# Altium integrated library Altium_SMD_Resister.IntLib: 490 symbols (part 5 of 8)
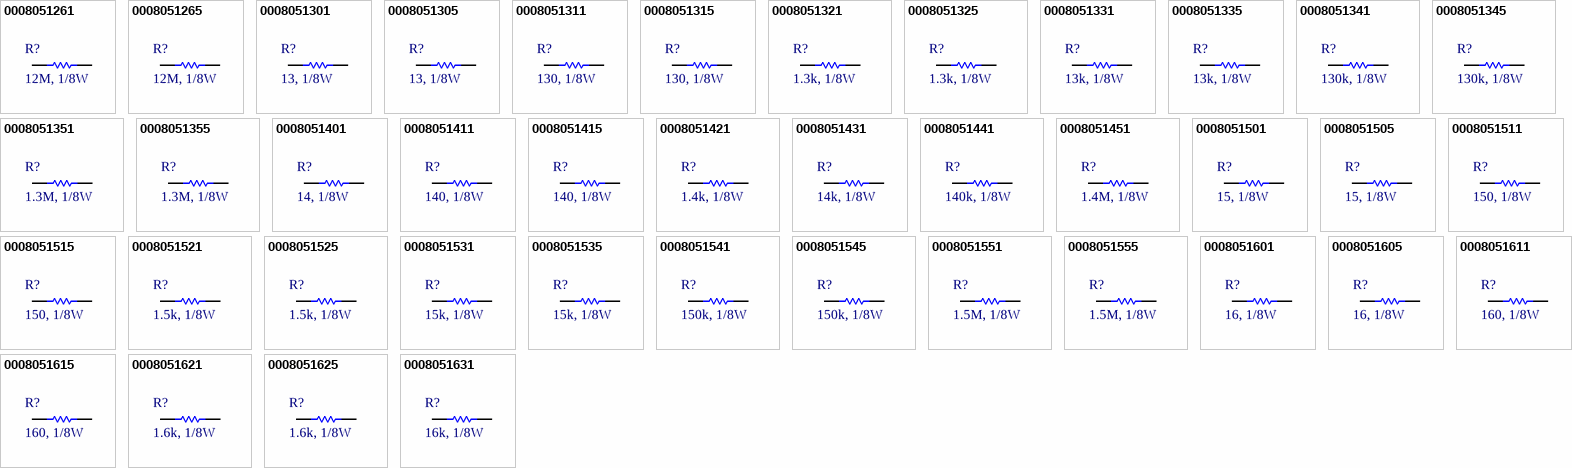
[diagram p16: symbols 0008051261 to 0008051631]

## 0008051305
designator R?, comment 13, 1/8W
RES, 13 Ohm, size 0805, 5%; Manufacture  Name: Vishay Dale; Manufacture  SN: CRCW080513R0JNEA; Resistance tolerance: +/-5%; Resistance: 13; Supply 1 Name: DigiKey; Supply 1 SN: 541-13.0CTR-ND; Supply 2 Name: Mouser; Supply 2 SN: 71-CRCW080513R0JNEA; Supply 3 Name: ThegioiIC; Size: 0805; Mounting Technology: SMT; Rated Power: 1/8 W; Datasheet: https://www.vishay.com/docs/20035/dcrcwe3.pdf; ComponentLink1Description: Datasheet link; ComponentLink1URL: *; Supply 1 URL: https://www.digikey.com/en/products/detail/vishay-dale/CRCW080513R0JNEA/1175153; Supply 2 URL: https://www.mouser.vn/ProductDetail/Vishay-Dale/CRCW080513R0JNEA?qs=0y7Riw94L4g6KLaYV7LaYA%3D%3D; Supply 3 SN: *; Supply 3 URL: https://www.thegioiic.com/dien-tro-13-ohm-0805-5-
footprint RESISTOR_0805 (Chip Resistor, 2-Leads, Body 2,00x1,20mm, IPC Medium Density)
pins: 1, 2

## 0008051311
designator R?, comment 130, 1/8W
RES, 130 Ohm, size 0805, 1%; Manufacture  Name: Vishay Dale; Manufacture  SN: CRCW0805130RFKEA; Resistance tolerance: +/-1%; Resistance: 130; Supply 1 Name: DigiKey; Supply 1 SN: 541-130CTR-ND; Supply 2 Name: Mouser; Supply 2 SN: 71-CRCW0805-130; Size: 0805; Mounting Technology: SMT; Rated Power: 1/8 W; Datasheet: https://www.vishay.com/docs/20035/dcrcwe3.pdf; ComponentLink1Description: Datasheet link; ComponentLink1URL: *; Supply 1 URL: https://www.digikey.com/en/products/detail/vishay-dale/CRCW0805130RFKEA/1175535; Supply 2 URL: https://www.mouser.vn/ProductDetail/Vishay-Dale/CRCW0805130RFKTA?qs=giVM%252B3aTMKxKqHz68BaXog%3D%3D; Supply 3 Name: *; Supply 3 SN: *; Supply 3 URL: *
footprint RESISTOR_0805 (Chip Resistor, 2-Leads, Body 2,00x1,20mm, IPC Medium Density)
pins: 1, 2

## 0008051315
designator R?, comment 130, 1/8W
RES, 130 Ohm, size 0805, 5%; Manufacture  Name: Vishay Dale; Manufacture  SN: CRCW0805130RFKEA; Resistance tolerance: +/-5%; Resistance: 130; Supply 1 Name: DigiKey; Supply 1 SN: 541-130ATR-ND; Supply 2 Name: Mouser; Supply 2 SN: 71-CRCW0805130RJNEA; Supply 3 Name: ThegioiIC; Size: 0805; Mounting Technology: SMT; Rated Power: 1/8 W; Datasheet: https://www.vishay.com/docs/20035/dcrcwe3.pdf; ComponentLink1Description: Datasheet link; ComponentLink1URL: *; Supply 1 URL: https://www.digikey.com/en/products/detail/vishay-dale/CRCW0805130RJNEA/1175177; Supply 2 URL: https://www.mouser.vn/ProductDetail/Vishay-Dale/CRCW0805130RJNEA?qs=0y7Riw94L4hSzyuZjO1BEg%3D%3D; Supply 3 SN: *; Supply 3 URL: https://www.thegioiic.com/dien-tro-130-ohm-0805-5
footprint RESISTOR_0805 (Chip Resistor, 2-Leads, Body 2,00x1,20mm, IPC Medium Density)
pins: 1, 2

## 0008051321
designator R?, comment 1.3k, 1/8W
RES, 1.3k Ohm, size 0805, 1%; Manufacture  Name: Vishay Dale; Manufacture  SN: CRCW08051K30FKEA; Resistance tolerance: +/-1%; Supply 1 Name: DigiKey; Supply 1 SN: 541-1.30KCTR-ND; Supply 2 Name: Mouser; Supply 2 SN: 71-CRCW0805-1.3K-E3; Size: 0805; Mounting Technology: SMT; Rated Power: 1/8 W; Datasheet: https://www.vishay.com/docs/20035/dcrcwe3.pdf; Resistance: 1.3k; ComponentLink1Description: Datasheet link; ComponentLink1URL: *; Supply 1 URL: https://www.digikey.com/en/products/detail/vishay-dale/CRCW08051K30FKEA/1175649; Supply 2 URL: https://www.mouser.vn/ProductDetail/Vishay-Dale/CRCW08051K30FKEA?qs=DZvKvnD5UYWy1USUvWuhZQ%3D%3D; Supply 3 Name: *; Supply 3 SN: *; Supply 3 URL: *
footprint RESISTOR_0805 (Chip Resistor, 2-Leads, Body 2,00x1,20mm, IPC Medium Density)
pins: 1, 2

## 0008051325
designator R?, comment 1.3k, 1/8W
RES, 1.3k Ohm, size 0805, 5%; Manufacture  Name: Vishay Dale; Manufacture  SN: CRCW08051K30JNEA; Resistance tolerance: +/-5%; Supply 1 Name: DigiKey; Supply 1 SN: 541-1.3KATR-ND; Supply 2 Name: Mouser; Supply 2 SN: 71-CRCW08051K30JNEA; Supply 3 Name: ThegioiIC; Size: 0805; Mounting Technology: SMT; Rated Power: 1/8 W; Datasheet: https://www.vishay.com/docs/20035/dcrcwe3.pdf; Resistance: 1.3k; ComponentLink1Description: Datasheet link; ComponentLink1URL: *; Supply 1 URL: https://www.digikey.com/en/products/detail/vishay-dale/CRCW08051K30JNEA/1175201; Supply 2 URL: https://www.mouser.vn/ProductDetail/Vishay-Dale/CRCW08051K30JNEA?qs=DZvKvnD5UYXM63M39f9SOw%3D%3D; Supply 3 SN: *; Supply 3 URL: https://www.thegioiic.com/dien-tro-1-3-kohm-0805-5
footprint RESISTOR_0805 (Chip Resistor, 2-Leads, Body 2,00x1,20mm, IPC Medium Density)
pins: 1, 2

## 0008051331
designator R?, comment 13k, 1/8W
RES, 13k Ohm, size 0805, 1%; Manufacture  Name: Vishay Dale; Manufacture  SN: CRCW080513K0FKEA; Resistance tolerance: +/-1%; Supply 1 Name: DigiKey; Supply 1 SN: 541-13.0KCTR-ND; Supply 2 Name: Mouser; Supply 2 SN: 71-CRCW080513K0FKEAC; Supply 3 Name: ThegioiIC; Size: 0805; Mounting Technology: SMT; Rated Power: 1/8 W; Datasheet: https://www.vishay.com/docs/20035/dcrcwe3.pdf; Resistance: 13k; ComponentLink1Description: Datasheet link; ComponentLink1URL: *; Supply 1 URL: https://www.digikey.com/en/products/detail/vishay-dale/CRCW080513K0FKEA/1175763; Supply 2 URL: https://www.mouser.vn/ProductDetail/Vishay-Dale/CRCW080513K0FKEAC?qs=E3Y5ESvWgWPE3tvm%252BBlG8w%3D%3D; Supply 3 SN: *; Supply 3 URL: https://www.mouser.vn/ProductDetail/Vishay-Dale/CRCW08051K30FKEA?qs=DZvKvnD5UYWy1USUvWuhZQ%3D%3D
footprint RESISTOR_0805 (Chip Resistor, 2-Leads, Body 2,00x1,20mm, IPC Medium Density)
pins: 1, 2

## 0008051335
designator R?, comment 13k, 1/8W
RES, 13k Ohm, size 0805, 5%; Manufacture  Name: Vishay Dale; Manufacture  SN: CRCW080513K0JNEA; Resistance tolerance: +/-5%; Supply 1 Name: DigiKey; Supply 1 SN: 541-13KATR-ND; Supply 2 Name: Mouser; Supply 2 SN: 71-CRCW080513K0JNEA; Supply 3 Name: ThegioiIC; Size: 0805; Mounting Technology: SMT; Rated Power: 1/8 W; Datasheet: https://www.vishay.com/docs/20035/dcrcwe3.pdf; Resistance: 13k; ComponentLink1Description: Datasheet link; ComponentLink1URL: *; Supply 1 URL: https://www.digikey.com/en/products/detail/vishay-dale/CRCW080513K0JNEA/1175225; Supply 2 URL: https://www.mouser.vn/ProductDetail/Vishay-Dale/CRCW080513K0JNEA?qs=0y7Riw94L4jwZQ%2FJsMqPzw%3D%3D; Supply 3 SN: *; Supply 3 URL: https://www.thegioiic.com/dien-tro-13-kohm-0805-5
footprint RESISTOR_0805 (Chip Resistor, 2-Leads, Body 2,00x1,20mm, IPC Medium Density)
pins: 1, 2

## 0008051341
designator R?, comment 130k, 1/8W
RES, 130k Ohm, size 0805, 1%; Manufacture  Name: Vishay Dale; Manufacture  SN: CRCW0805130KFKEAC; Resistance tolerance: +/-1%; Supply 1 Name: DigiKey; Supply 1 SN: 541-CRCW0805130KFKEACTR-ND; Supply 2 Name: Mouser; Supply 2 SN: 71-CRCW0805-130K-E3; Supply 3 Name: ThegioiIC; Size: 0805; Mounting Technology: SMT; Rated Power: 1/8 W; Datasheet: https://www.vishay.com/docs/28773/crcwce3.pdf; Resistance: 130k; ComponentLink1Description: Datasheet link; ComponentLink1URL: *; Supply 1 URL: https://www.digikey.com/en/products/detail/vishay-dale/CRCW0805130KFKEAC/7922604; Supply 2 URL: https://www.mouser.vn/ProductDetail/Vishay-Dale/CRCW0805130KFKEA?qs=0y7Riw94L4iHKWUxGOctIA%3D%3D; Supply 3 SN: *; Supply 3 URL: https://www.thegioiic.com/dien-tro-133-kohm-0805-1-
footprint RESISTOR_0805 (Chip Resistor, 2-Leads, Body 2,00x1,20mm, IPC Medium Density)
pins: 1, 2

## 0008051345
designator R?, comment 130k, 1/8W
RES, 130k Ohm, size 0805, 5%; Manufacture  Name: Vishay Dale; Manufacture  SN: CRCW0805130KJNEA; Resistance tolerance: +/-5%; Supply 1 Name: DigiKey; Supply 1 SN: 541-130KATR-ND; Supply 2 Name: Mouser; Supply 2 SN: 71-CRCW0805130KJNEA; Supply 3 Name: ThegioiIC; Size: 0805; Mounting Technology: SMT; Rated Power: 1/8 W; Datasheet: https://www.vishay.com/docs/20035/dcrcwe3.pdf; Resistance: 130k; ComponentLink1Description: Datasheet link; ComponentLink1URL: *; Supply 1 URL: https://www.digikey.com/en/products/detail/vishay-dale/CRCW0805130KJNEA/1175249; Supply 2 URL: https://www.mouser.vn/ProductDetail/Vishay-Dale/CRCW0805130KJNEA?qs=0y7Riw94L4hrk%2FEo6puJGw%3D%3D; Supply 3 SN: *; Supply 3 URL: https://www.thegioiic.com/dien-tro-130-kohm-0805-5
footprint RESISTOR_0805 (Chip Resistor, 2-Leads, Body 2,00x1,20mm, IPC Medium Density)
pins: 1, 2

## 0008051351
designator R?, comment 1.3M, 1/8W
RES, 1.3M Ohm, size 0805, 1%; Manufacture  Name: Vishay Dale; Manufacture  SN: CRCW08051M30FKEA; Resistance tolerance: +/-1%; Supply 1 Name: DigiKey; Supply 1 SN: 541-1.30MCTR-ND; Supply 2 Name: Mouser; Supply 2 SN: 71-CRCW08051M30FKEA; Size: 0805; Mounting Technology: SMT; Rated Power: 1/8 W; Datasheet: https://www.vishay.com/docs/20035/dcrcwe3.pdf; Resistance: 1.3M; ComponentLink1Description: Datasheet link; ComponentLink1URL: *; Supply 1 URL: https://www.digikey.com/en/products/detail/vishay-dale/CRCW08051M30FKEA/1176028; Supply 2 URL: https://www.mouser.vn/ProductDetail/Vishay-Dale/CRCW08051M30FKEA?qs=1CkV0QOCgMqfDDw%2F4HOy0g%3D%3D; Supply 3 Name: *; Supply 3 SN: *; Supply 3 URL: *
footprint RESISTOR_0805 (Chip Resistor, 2-Leads, Body 2,00x1,20mm, IPC Medium Density)
pins: 1, 2

## 0008051355
designator R?, comment 1.3M, 1/8W
RES, 1.3M Ohm, size 0805, 5%; Manufacture  Name: Vishay Dale; Manufacture  SN: CRCW08051M30JNEAC; Resistance tolerance: +/-5%; Supply 1 Name: DigiKey; Supply 1 SN: CRCW08051M30JNEAC-ND; Supply 2 Name: Mouser; Supply 2 SN: 71-CRCW08051M30JNEA; Supply 3 Name: ThegioiIC; Size: 0805; Mounting Technology: SMT; Rated Power: 1/8 W; Datasheet: https://www.vishay.com/docs/28773/crcwce3.pdf; Resistance: 1.3M; ComponentLink1Description: Datasheet link; ComponentLink1URL: *; Supply 1 URL: https://www.digikey.com/en/products/detail/vishay-dale/CRCW08051M30JNEAC/7923851; Supply 2 URL: https://www.mouser.vn/ProductDetail/Vishay-Dale/CRCW08051M30JNEA?qs=1CkV0QOCgMqStvDAyUDctQ%3D%3D; Supply 3 SN: *; Supply 3 URL: https://www.thegioiic.com/dien-tro-1-3-mohm-0805-5
footprint RESISTOR_0805 (Chip Resistor, 2-Leads, Body 2,00x1,20mm, IPC Medium Density)
pins: 1, 2

## 0008051401
designator R?, comment 14, 1/8W
RES, 14 Ohm, size 0805, 1%; Manufacture  Name: Vishay Dale; Manufacture  SN: CRCW080514R0FKEA; Resistance tolerance: +/-1%; Resistance: 14; Supply 1 Name: DigiKey; Supply 1 SN: 541-14.0CTR-ND; Supply 2 Name: Mouser; Supply 2 SN: 71-CRCW080514R0FKEA; Size: 0805; Mounting Technology: SMT; Rated Power: 1/8 W; Datasheet: https://www.vishay.com/docs/20035/dcrcwe3.pdf; ComponentLink1Description: Datasheet link; ComponentLink1URL: *; Supply 1 URL: https://www.digikey.com/en/products/detail/vishay-dale/CRCW080514R0FKEA/1175424; Supply 2 URL: https://www.mouser.vn/ProductDetail/Vishay-Dale/CRCW080514R0FKEA?qs=bMjB6bAaLENYJ14k%252BREMxw%3D%3D; Supply 3 Name: *; Supply 3 SN: *; Supply 3 URL: *
footprint RESISTOR_0805 (Chip Resistor, 2-Leads, Body 2,00x1,20mm, IPC Medium Density)
pins: 1, 2

## 0008051411
designator R?, comment 140, 1/8W
RES, 140 Ohm, size 0805, 1%; Manufacture  Name: Vishay Dale; Manufacture  SN: CRCW0805140RFKEA; Resistance tolerance: +/-1%; Resistance: 140; Supply 1 Name: DigiKey; Supply 1 SN: 541-140CTR-ND; Supply 2 Name: Mouser; Supply 2 SN: 71-CRCW0805-140-E3; Size: 0805; Mounting Technology: SMT; Rated Power: 1/8 W; Datasheet: https://www.vishay.com/docs/20035/dcrcwe3.pdf; ComponentLink1Description: Datasheet link; ComponentLink1URL: *; Supply 1 URL: https://www.digikey.com/en/products/detail/vishay-dale/CRCW0805140RFKEA/1175538; Supply 2 URL: https://www.mouser.vn/ProductDetail/Vishay-Dale/CRCW0805140RFKEA?qs=0y7Riw94L4jPO4%252BnYwmRgg%3D%3D; Supply 3 Name: *; Supply 3 SN: *; Supply 3 URL: *
footprint RESISTOR_0805 (Chip Resistor, 2-Leads, Body 2,00x1,20mm, IPC Medium Density)
pins: 1, 2

## 0008051415
designator R?, comment 140, 1/8W
RES, 140 Ohm, size 0805, 5%; Manufacture  Name: Vishay Dale; Manufacture  SN: CRCW0805140RJNTA; Resistance tolerance: +/-5%; Resistance: 140; Supply 1 Name: DigiKey; Supply 1 SN: CRCW0805140RJNTA-ND; Size: 0805; Mounting Technology: SMT; Rated Power: 1/8 W; Datasheet: https://www.vishay.com/docs/20008/dcrcw.pdf; ComponentLink1Description: Datasheet link; ComponentLink1URL: *; Supply 1 URL: https://www.digikey.com/en/products/detail/vishay-dale/CRCW0805140RJNTA/5073823?s=N4IgjCBcoExaBjKAzAhgGwM4FMA0IB7KAbXAAYAOAdgE4QBdfABwBcoQBlFgJwEsA7AOYgAvvgDM8EEkhoseQiRAwArGUmMQrdlz5DR%2BMDBoRo0lBhz4ikUuJriYFBszaROPAcLHLKKqTJyVoq24AAsZAAEAPIAFgC2mC5abiAAqvy8LNHIALLYqJgArtzYBiAAtKaIFvLWSiphEPQirUA; Supply 2 Name: *; Supply 2 SN: *; Supply 2 URL: *; Supply 3 Name: *; Supply 3 SN: *; Supply 3 URL: *
footprint RESISTOR_0805 (Chip Resistor, 2-Leads, Body 2,00x1,20mm, IPC Medium Density)
pins: 1, 2

## 0008051421
designator R?, comment 1.4k, 1/8W
RES, 1.4k Ohm, size 0805, 1%; Manufacture  Name: Vishay Dale; Manufacture  SN: CRCW08051K40FKEA; Resistance tolerance: +/-1%; Supply 1 Name: DigiKey; Supply 1 SN: 541-1.40KCTR-ND; Supply 2 Name: Mouser; Supply 2 SN: 71-CRCW08051K40FKEAC; Size: 0805; Mounting Technology: SMT; Rated Power: 1/8 W; Datasheet: https://www.vishay.com/docs/20035/dcrcwe3.pdf; Resistance: 1.4k; ComponentLink1Description: Datasheet link; ComponentLink1URL: *; Supply 1 URL: https://www.digikey.com/en/products/detail/vishay-dale/CRCW08051K40FKEA/1175652; Supply 2 URL: https://www.mouser.vn/ProductDetail/Vishay-Dale/CRCW08051K40FKEAC?qs=E3Y5ESvWgWMroF%2FACx5xCA%3D%3D; Supply 3 Name: *; Supply 3 SN: *; Supply 3 URL: *
footprint RESISTOR_0805 (Chip Resistor, 2-Leads, Body 2,00x1,20mm, IPC Medium Density)
pins: 1, 2

## 0008051431
designator R?, comment 14k, 1/8W
RES, 14k Ohm, size 0805, 1%; Manufacture  Name: Vishay Dale; Manufacture  SN: CRCW080514K0FKEA; Resistance tolerance: +/-1%; Supply 1 Name: DigiKey; Supply 1 SN: 541-14.0KCTR-ND; Supply 2 Name: Mouser; Supply 2 SN: 71-CRCW0805-14K; Size: 0805; Mounting Technology: SMT; Rated Power: 1/8 W; Datasheet: https://www.vishay.com/docs/20035/dcrcwe3.pdf; Resistance: 14k; ComponentLink1Description: Datasheet link; ComponentLink1URL: *; Supply 1 URL: https://www.digikey.com/en/products/detail/vishay-dale/CRCW080514K0FKEA/1175766; Supply 2 URL: https://www.mouser.vn/ProductDetail/Vishay-Dale/CRCW080514K0FKTA?qs=y%252BxuShyeZ0O8roe3MhXm6Q%3D%3D; Supply 3 Name: *; Supply 3 SN: *; Supply 3 URL: *
footprint RESISTOR_0805 (Chip Resistor, 2-Leads, Body 2,00x1,20mm, IPC Medium Density)
pins: 1, 2

## 0008051441
designator R?, comment 140k, 1/8W
RES, 140k Ohm, size 0805, 1%; Manufacture  Name: Vishay Dale; Manufacture  SN: CRCW0805140KFKEA; Resistance tolerance: +/-1%; Supply 1 Name: DigiKey; Supply 1 SN: 541-140KCTR-ND; Supply 2 Name: Mouser; Supply 2 SN: 71-CRCW0805-140K-E3; Size: 0805; Mounting Technology: SMT; Rated Power: 1/8 W; Datasheet: https://www.vishay.com/docs/20035/dcrcwe3.pdf; Resistance: 140k; ComponentLink1Description: Datasheet link; ComponentLink1URL: *; Supply 1 URL: https://www.digikey.com/en/products/detail/vishay-dale/CRCW0805140KFKEA/1175880; Supply 2 URL: https://www.mouser.vn/ProductDetail/Vishay-Dale/CRCW0805140KFKEA?qs=0y7Riw94L4gtbV%2FoXTvwTw%3D%3D; Supply 3 Name: *; Supply 3 SN: *; Supply 3 URL: *
footprint RESISTOR_0805 (Chip Resistor, 2-Leads, Body 2,00x1,20mm, IPC Medium Density)
pins: 1, 2

## 0008051451
designator R?, comment 1.4M, 1/8W
RES, 1.4M Ohm, size 0805, 1%; Manufacture  Name: Vishay Dale; Manufacture  SN: CRCW08051M40FKEA; Resistance tolerance: +/-1%; Supply 1 Name: DigiKey; Supply 1 SN: 541-1.40MCTR-ND; Supply 2 Name: Mouser; Supply 2 SN: 71-CRCW08051M40FKEA; Size: 0805; Mounting Technology: SMT; Rated Power: 1/8 W; Datasheet: https://www.vishay.com/docs/20035/dcrcwe3.pdf; Resistance: 1.4M; ComponentLink1Description: Datasheet link; ComponentLink1URL: *; Supply 1 URL: https://www.digikey.com/en/products/detail/vishay-dale/CRCW08051M40FKEA/1176031; Supply 2 URL: https://www.mouser.vn/ProductDetail/Vishay-Dale/CRCW08051M40FKEA?qs=1CkV0QOCgMrnDZ6HKgVapA%3D%3D; Supply 3 Name: *; Supply 3 SN: *; Supply 3 URL: *
footprint RESISTOR_0805 (Chip Resistor, 2-Leads, Body 2,00x1,20mm, IPC Medium Density)
pins: 1, 2

## 0008051501
designator R?, comment 15, 1/8W
RES, 15 Ohm, size 0805, 1%; Manufacture  Name: Vishay Dale; Manufacture  SN: CRCW080515R0FKEB; Resistance tolerance: +/-1%; Resistance: 15; Supply 1 Name: DigiKey; Supply 1 SN: 541-CRCW080515R0FKEBTR-ND; Supply 2 Name: Mouser; Supply 2 SN: 71-CRCW080515R0FKEAC; Supply 3 Name: ThegioiIC; Size: 0805; Mounting Technology: SMT; Rated Power: 1/8 W; Datasheet: https://www.vishay.com/docs/20035/dcrcwe3.pdf; ComponentLink1Description: Datasheet link; ComponentLink1URL: *; Supply 1 URL: https://www.digikey.com/en/products/detail/vishay-dale/CRCW080515R0FKEB/5073898; Supply 2 URL: https://www.mouser.vn/ProductDetail/Vishay-Dale/CRCW080515R0FKEAC?qs=E3Y5ESvWgWM44NF3DwTdDQ%3D%3D; Supply 3 SN: *; Supply 3 URL: https://www.mouser.vn/ProductDetail/Vishay-Dale/CRCW080514R0FKEA?qs=bMjB6bAaLENYJ14k%252BREMxw%3D%3D
footprint RESISTOR_0805 (Chip Resistor, 2-Leads, Body 2,00x1,20mm, IPC Medium Density)
pins: 1, 2

## 0008051505
designator R?, comment 15, 1/8W
RES, 15 Ohm, size 0805, 5%; Manufacture  Name: Vishay Dale; Manufacture  SN: CRCW080515R0JNEA; Resistance tolerance: +/-5%; Resistance: 15; Supply 1 Name: DigiKey; Supply 1 SN: 541-15ATR-ND; Supply 2 Name: Mouser; Supply 2 SN: 71-CRCW0805J-15; Supply 3 Name: ThegioiIC; Size: 0805; Mounting Technology: SMT; Rated Power: 1/8 W; Datasheet: https://www.vishay.com/docs/20035/dcrcwe3.pdf; ComponentLink1Description: Datasheet link; ComponentLink1URL: *; Supply 1 URL: https://www.digikey.com/en/products/detail/vishay-dale/CRCW080515R0JNEA/1175154; Supply 2 URL: https://www.mouser.vn/ProductDetail/Vishay-Dale/CRCW080515R0JNTA?qs=7lMtFQ21GD%2Fy1G9yTvj1Dg%3D%3D; Supply 3 SN: *; Supply 3 URL: https://www.thegioiic.com/dien-tro-15-ohm-0805-5-
footprint RESISTOR_0805 (Chip Resistor, 2-Leads, Body 2,00x1,20mm, IPC Medium Density)
pins: 1, 2

## 0008051511
designator R?, comment 150, 1/8W
RES, 150 Ohm, size 0805, 1%; Manufacture  Name: Vishay Dale; Manufacture  SN: CRCW0805150RFKEAC; Resistance tolerance: +/-1%; Resistance: 150; Supply 1 Name: DigiKey; Supply 1 SN: 541-CRCW0805150RFKEACTR-ND; Supply 2 Name: Mouser; Supply 2 SN: 71-CRCW0805150RFKEB; Size: 0805; Mounting Technology: SMT; Rated Power: 1/8 W; Datasheet: https://www.vishay.com/docs/28773/crcwce3.pdf; ComponentLink1Description: Datasheet link; ComponentLink1URL: *; Supply 1 URL: https://www.digikey.com/en/products/detail/vishay-dale/CRCW0805150RFKEAC/7922303; Supply 2 URL: https://www.mouser.vn/ProductDetail/Vishay-Dale/CRCW0805150RFKEB?qs=bMjB6bAaLEOZD7oncshwRw%3D%3D; Supply 3 Name: *; Supply 3 SN: *; Supply 3 URL: *
footprint RESISTOR_0805 (Chip Resistor, 2-Leads, Body 2,00x1,20mm, IPC Medium Density)
pins: 1, 2

## 0008051515
designator R?, comment 150, 1/8W
RES, 150 Ohm, size 0805, 5%; Manufacture  Name: Vishay Dale; Manufacture  SN: CRCW0805150RFKEAC; Resistance tolerance: +/-5%; Resistance: 150; Supply 1 Name: DigiKey; Supply 1 SN: 541-150ATR-ND; Supply 2 Name: Mouser; Supply 3 Name: ThegioiIC; Size: 0805; Mounting Technology: SMT; Rated Power: 1/8 W; Datasheet: https://www.vishay.com/docs/20035/dcrcwe3.pdf; ComponentLink1Description: Datasheet link; ComponentLink1URL: *; Supply 1 URL: https://www.digikey.com/en/products/detail/vishay-dale/CRCW0805150RJNEA/1175178; Supply 2 SN: 541-150ATR-ND; Supply 2 URL: https://www.digikey.com/en/products/detail/vishay-dale/CRCW0805150RJNEA/1175178; Supply 3 SN: *; Supply 3 URL: https://www.thegioiic.com/dien-tro-150-ohm-0805-5
footprint RESISTOR_0805 (Chip Resistor, 2-Leads, Body 2,00x1,20mm, IPC Medium Density)
pins: 1, 2

## 0008051521
designator R?, comment 1.5k, 1/8W
RES, 1.5k Ohm, size 0805, 1%; Manufacture  Name: Vishay Dale; Manufacture  SN: CRCW08051K50FKEAC; Resistance tolerance: +/-1%; Supply 1 Name: DigiKey; Supply 1 SN: 541-4161-2-ND; Supply 2 Name: Mouser; Supply 2 SN: 71-CRCW0805-1.5K-E3; Supply 3 Name: ThegioiIC; Size: 0805; Mounting Technology: SMT; Rated Power: 1/8 W; Datasheet: https://www.vishay.com/docs/28773/crcwce3.pdf; Resistance: 1.5k; ComponentLink1Description: Datasheet link; ComponentLink1URL: *; Supply 1 URL: https://www.digikey.com/en/products/detail/vishay-dale/CRCW08051K50FKEAC/7928583; Supply 2 URL: https://www.mouser.vn/ProductDetail/Vishay-Dale/CRCW08051K50FKEA?qs=DZvKvnD5UYVo4ieimONp3Q%3D%3D; Supply 3 SN: *; Supply 3 URL: CRCW08051K50FKEAC
footprint RESISTOR_0805 (Chip Resistor, 2-Leads, Body 2,00x1,20mm, IPC Medium Density)
pins: 1, 2

## 0008051525
designator R?, comment 1.5k, 1/8W
RES, 1.5k Ohm, size 0805, 5%; Manufacture  Name: Vishay Dale; Manufacture  SN: CRCW08051K50JNEAC; Resistance tolerance: +/-5%; Supply 1 Name: DigiKey; Supply 1 SN: 541-CRCW08051K50JNEACTR-ND; Supply 2 Name: Mouser; Supply 2 SN: 71-CRCW0805J-1.5K-E3; Supply 3 Name: ThegioiIC; Size: 0805; Mounting Technology: SMT; Rated Power: 1/8 W; Datasheet: https://www.vishay.com/docs/28773/crcwce3.pdf; Resistance: 1.5k; ComponentLink1Description: Datasheet link; ComponentLink1URL: *; Supply 1 URL: https://www.digikey.com/en/products/detail/vishay-dale/CRCW08051K50JNEAC/7923721; Supply 2 URL: https://www.mouser.vn/ProductDetail/Vishay-Dale/CRCW08051K50JNEA?qs=DZvKvnD5UYVu0sAToX1nWg%3D%3D; Supply 3 SN: *; Supply 3 URL: https://www.thegioiic.com/dien-tro-1-5-kohm-0805-5
footprint RESISTOR_0805 (Chip Resistor, 2-Leads, Body 2,00x1,20mm, IPC Medium Density)
pins: 1, 2

## 0008051531
designator R?, comment 15k, 1/8W
RES, 15k Ohm, size 0805, 1%; Manufacture  Name: Vishay Dale; Manufacture  SN: CRCW080515K0FKEAC; Resistance tolerance: +/-1%; Supply 1 Name: DigiKey; Supply 1 SN: 541-4136-2-ND; Supply 2 Name: Mouser; Supply 2 SN: 71-CRCW0805-15K-E3; Supply 3 Name: ThegioiIC; Size: 0805; Mounting Technology: SMT; Rated Power: 1/8 W; Datasheet: https://www.vishay.com/docs/28773/crcwce3.pdf; Resistance: 15k; ComponentLink1Description: Datasheet link; ComponentLink1URL: *; Supply 1 URL: https://www.digikey.com/en/products/detail/vishay-dale/CRCW080515K0FKEAC/7928558; Supply 2 URL: https://www.mouser.vn/ProductDetail/Vishay-Dale/CRCW080515K0FKEA?qs=bMjB6bAaLEM4rXT2DoR3BA%3D%3D; Supply 3 SN: *; Supply 3 URL: 71-CRCW0805-15K-E3
footprint RESISTOR_0805 (Chip Resistor, 2-Leads, Body 2,00x1,20mm, IPC Medium Density)
pins: 1, 2

## 0008051535
designator R?, comment 15k, 1/8W
RES, 15k Ohm, size 0805, 5%; Manufacture  Name: Vishay Dale; Manufacture  SN: CRCW080515K0JNEA; Resistance tolerance: +/-5%; Supply 1 Name: DigiKey; Supply 1 SN: 541-15KATR-ND; Supply 2 Name: Mouser; Supply 2 SN: 71-CRCW0805J-15K-E3; Supply 3 Name: ThegioiIC; Size: 0805; Mounting Technology: SMT; Rated Power: 1/8 W; Datasheet: https://www.vishay.com/docs/20035/dcrcwe3.pdf; Resistance: 15k; ComponentLink1Description: Datasheet link; ComponentLink1URL: *; Supply 1 URL: https://www.digikey.com/en/products/detail/vishay-dale/CRCW080515K0JNEA/1175226; Supply 2 URL: https://www.mouser.vn/ProductDetail/Vishay-Dale/CRCW080515K0JNEA?qs=bMjB6bAaLENV0lmPLLG8xQ%3D%3D; Supply 3 SN: *; Supply 3 URL: https://www.thegioiic.com/dien-tro-15-kohm-0805-5
footprint RESISTOR_0805 (Chip Resistor, 2-Leads, Body 2,00x1,20mm, IPC Medium Density)
pins: 1, 2

## 0008051541
designator R?, comment 150k, 1/8W
RES, 150k Ohm, size 0805, 1%; Manufacture  Name: Vishay Dale; Manufacture  SN: CRCW0805150KFKEAC; Resistance tolerance: +/-1%; Supply 1 Name: DigiKey; Supply 1 SN: 541-CRCW0805150KFKEACTR-ND; Supply 2 Name: Mouser; Supply 2 SN: 71-RCV0805150KFKEA; Supply 3 Name: ThegioiIC; Size: 0805; Mounting Technology: SMT; Rated Power: 1/8 W; Datasheet: https://www.vishay.com/docs/28773/crcwce3.pdf; Resistance: 150k; ComponentLink1Description: Datasheet link; ComponentLink1URL: *; Supply 1 URL: https://www.digikey.com/en/products/detail/vishay-dale/CRCW0805150KFKEAC/7922326; Supply 2 URL: https://www.mouser.vn/ProductDetail/Vishay-Draloric/RCV0805150KFKEA?qs=%252BZJHVReOaHoD19mGJzXQNg%3D%3D; Supply 3 SN: *; Supply 3 URL: https://www.vishay.com/docs/28773/crcwce3.pdf
footprint RESISTOR_0805 (Chip Resistor, 2-Leads, Body 2,00x1,20mm, IPC Medium Density)
pins: 1, 2

## 0008051545
designator R?, comment 150k, 1/8W
RES, 150k Ohm, size 0805, 5%; Manufacture  Name: Vishay Dale; Manufacture  SN: CRCW0805150KJNEA; Resistance tolerance: +/-5%; Supply 1 Name: DigiKey; Supply 1 SN: 541-150KATR-ND; Supply 2 Name: Mouser; Supply 2 SN: 71-CRCW0805150KJNEA; Supply 3 Name: ThegioiIC; Size: 0805; Mounting Technology: SMT; Rated Power: 1/8 W; Datasheet: https://www.vishay.com/docs/20035/dcrcwe3.pdf; Resistance: 150k; ComponentLink1Description: Datasheet link; ComponentLink1URL: *; Supply 1 URL: https://www.digikey.com/en/products/detail/vishay-dale/CRCW0805150KJNEA/1175250; Supply 2 URL: https://www.mouser.vn/ProductDetail/Vishay-Dale/CRCW0805150KJNEA?qs=bMjB6bAaLEMh7CXrahQqdQ%3D%3D; Supply 3 SN: *; Supply 3 URL: https://www.thegioiic.com/dien-tro-150-kohm-0805-5
footprint RESISTOR_0805 (Chip Resistor, 2-Leads, Body 2,00x1,20mm, IPC Medium Density)
pins: 1, 2

## 0008051551
designator R?, comment 1.5M, 1/8W
RES, 1.5M Ohm, size 0805, 1%; Manufacture  Name: Vishay Dale; Manufacture  SN: CRCW08051M50FKEB; Resistance tolerance: +/-1%; Supply 1 Name: DigiKey; Supply 1 SN: 541-CRCW08051M50FKEBTR-ND; Supply 2 Name: Mouser; Supply 2 SN: 71-CRCW08051M50FKEAC; Size: 0805; Mounting Technology: SMT; Rated Power: 1/8 W; Datasheet: https://www.vishay.com/docs/20035/dcrcwe3.pdf; Resistance: 1.5M; ComponentLink1Description: Datasheet link; ComponentLink1URL: *; Supply 1 URL: https://www.digikey.com/en/products/detail/vishay-dale/CRCW08051M50FKEB/5074207; Supply 2 URL: https://www.mouser.vn/ProductDetail/Vishay-Dale/CRCW08051M50FKEAC?qs=E3Y5ESvWgWPkTbMzua%252BFLg%3D%3D; Supply 3 Name: *; Supply 3 SN: *; Supply 3 URL: *
footprint RESISTOR_0805 (Chip Resistor, 2-Leads, Body 2,00x1,20mm, IPC Medium Density)
pins: 1, 2

## 0008051555
designator R?, comment 1.5M, 1/8W
RES, 1.5M Ohm, size 0805, 5%; Manufacture  Name: Vishay Dale; Manufacture  SN: CRCW08051M50JNEA; Resistance tolerance: +/-5%; Supply 1 Name: DigiKey; Supply 1 SN: 541-1.5MATR-ND; Supply 2 Name: Mouser; Supply 2 SN: 71-CRCW08051M50JNEA; Supply 3 Name: ThegioiIC; Size: 0805; Mounting Technology: SMT; Rated Power: 1/8 W; Datasheet: https://www.vishay.com/docs/20035/dcrcwe3.pdf; Resistance: 1.5M; ComponentLink1Description: Datasheet link; ComponentLink1URL: *; Supply 1 URL: https://www.digikey.com/en/products/detail/vishay-dale/CRCW08051M50JNEA/1175274; Supply 2 URL: https://www.mouser.vn/ProductDetail/Vishay-Dale/CRCW08051M50JNEA?qs=1CkV0QOCgMooXqsYWJtv9Q%3D%3D; Supply 3 SN: *; Supply 3 URL: https://www.thegioiic.com/dien-tro-1-5-mohm-0805-5
footprint RESISTOR_0805 (Chip Resistor, 2-Leads, Body 2,00x1,20mm, IPC Medium Density)
pins: 1, 2

## 0008051601
designator R?, comment 16, 1/8W
RES, 16 Ohm, size 0805, 1%; Manufacture  Name: Vishay Dale; Manufacture  SN: CRCW080516R0FKEA; Resistance tolerance: +/-1%; Resistance: 16; Supply 1 Name: DigiKey; Supply 1 SN: 541-16.0CTR-ND; Supply 2 Name: Mouser; Supply 2 SN: 71-CRCW080516R0FKEA; Size: 0805; Mounting Technology: SMT; Rated Power: 1/8 W; Datasheet: https://www.vishay.com/docs/20035/dcrcwe3.pdf; ComponentLink1Description: Datasheet link; ComponentLink1URL: *; Supply 1 URL: https://www.digikey.com/en/products/detail/vishay-dale/CRCW080516R0FKEA/1175430; Supply 2 URL: https://www.mouser.vn/ProductDetail/Vishay-Dale/CRCW080516R0FKEA?qs=3ySnGRKSeyR1iWFsu%2FZBpQ%3D%3D; Supply 3 Name: *; Supply 3 SN: *; Supply 3 URL: *
footprint RESISTOR_0805 (Chip Resistor, 2-Leads, Body 2,00x1,20mm, IPC Medium Density)
pins: 1, 2

## 0008051605
designator R?, comment 16, 1/8W
RES, 16 Ohm, size 0805, 5%; Manufacture  Name: Vishay Dale; Manufacture  SN: CRCW080516R0JNEA; Resistance tolerance: +/-5%; Resistance: 16; Supply 1 Name: DigiKey; Supply 1 SN: 541-16ATR-ND; Supply 2 Name: Mouser; Supply 2 SN: 71-CRCW080516R0JNEA; Supply 3 Name: ThegioiIC; Size: 0805; Mounting Technology: SMT; Rated Power: 1/8 W; Datasheet: https://www.vishay.com/docs/20035/dcrcwe3.pdf; ComponentLink1Description: Datasheet link; ComponentLink1URL: *; Supply 1 URL: https://www.digikey.com/en/products/detail/vishay-dale/CRCW080516R0JNEA/1175155; Supply 2 URL: https://www.mouser.vn/ProductDetail/Vishay-Dale/CRCW080516R0JNEA?qs=2mNt4BZ3oPyhLk0EE%252BJFZw%3D%3D; Supply 3 SN: *; Supply 3 URL: https://www.thegioiic.com/dien-tro-16-ohm-0805-5-
footprint RESISTOR_0805 (Chip Resistor, 2-Leads, Body 2,00x1,20mm, IPC Medium Density)
pins: 1, 2

## 0008051611
designator R?, comment 160, 1/8W
RES, 160 Ohm, size 0805, 1%; Manufacture  Name: Vishay Dale; Manufacture  SN: CRCW0805160RFKEA; Resistance tolerance: +/-1%; Resistance: 160; Supply 1 Name: DigiKey; Supply 1 SN: 541-160CTR-ND; Supply 2 Name: Mouser; Supply 2 SN: 71-CRCW0805-160; Size: 0805; Mounting Technology: SMT; Rated Power: 1/8 W; Datasheet: https://www.vishay.com/docs/20035/dcrcwe3.pdf; ComponentLink1Description: Datasheet link; ComponentLink1URL: *; Supply 1 URL: https://www.digikey.com/en/products/detail/vishay-dale/CRCW0805160RFKEA/1175544; Supply 2 URL: https://www.mouser.vn/ProductDetail/Vishay-Dale/CRCW0805160RFKTA?qs=gDaCAY0XVXFAHdJsLcN14A%3D%3D; Supply 3 Name: *; Supply 3 SN: *; Supply 3 URL: *
footprint RESISTOR_0805 (Chip Resistor, 2-Leads, Body 2,00x1,20mm, IPC Medium Density)
pins: 1, 2

## 0008051615
designator R?, comment 160, 1/8W
RES, 160 Ohm, size 0805, 5%; Manufacture  Name: Vishay Dale; Manufacture  SN: CRCW0805160RJNEA; Resistance tolerance: +/-5%; Resistance: 160; Supply 1 Name: DigiKey; Supply 1 SN: 541-160ATR-ND; Supply 2 Name: Mouser; Supply 2 SN: 71-CRCW0805160RJNEA; Supply 3 Name: ThegioiIC; Size: 0805; Mounting Technology: SMT; Rated Power: 1/8 W; Datasheet: https://www.vishay.com/docs/20035/dcrcwe3.pdf; ComponentLink1Description: Datasheet link; ComponentLink1URL: *; Supply 1 URL: https://www.digikey.com/en/products/detail/vishay-dale/CRCW0805160RJNEA/1175179; Supply 2 URL: https://www.mouser.vn/ProductDetail/Vishay-Dale/CRCW0805160RJNEA?qs=bMjB6bAaLEPyPBo8gbRxtw%3D%3D; Supply 3 SN: *; Supply 3 URL: https://www.thegioiic.com/dien-tro-160-ohm-0805-5
footprint RESISTOR_0805 (Chip Resistor, 2-Leads, Body 2,00x1,20mm, IPC Medium Density)
pins: 1, 2

## 0008051621
designator R?, comment 1.6k, 1/8W
RES, 1.6k Ohm, size 0805, 1%; Manufacture  Name: Vishay Dale; Manufacture  SN: CRCW08051K60FKEAC; Resistance tolerance: +/-1%; Supply 1 Name: DigiKey; Supply 1 SN: 541-CRCW08051K60FKEACTR-ND; Supply 2 Name: Mouser; Supply 2 SN: 71-CRCW08051K60FKEA; Size: 0805; Mounting Technology: SMT; Rated Power: 1/8 W; Datasheet: https://www.vishay.com/docs/28773/crcwce3.pdf; Resistance: 1.6k; ComponentLink1Description: Datasheet link; ComponentLink1URL: *; Supply 1 URL: https://www.digikey.com/en/products/detail/vishay-dale/CRCW08051K60FKEAC/7922561; Supply 2 URL: https://www.mouser.vn/ProductDetail/Vishay-Dale/CRCW08051K60FKEA?qs=1CkV0QOCgMpD4fa496FW%2FQ%3D%3D; Supply 3 Name: *; Supply 3 SN: *; Supply 3 URL: *
footprint RESISTOR_0805 (Chip Resistor, 2-Leads, Body 2,00x1,20mm, IPC Medium Density)
pins: 1, 2

## 0008051625
designator R?, comment 1.6k, 1/8W
RES, 1.6k Ohm, size 0805, 5%; Manufacture  Name: Vishay Dale; Manufacture  SN: CRCW08051K60JNEA; Resistance tolerance: +/-5%; Supply 1 Name: DigiKey; Supply 1 SN: 541-1.6KATR-ND; Supply 2 Name: Mouser; Supply 2 SN: 71-CRCW08051K60JNEA; Supply 3 Name: ThegioiIC; Size: 0805; Mounting Technology: SMT; Rated Power: 1/8 W; Datasheet: https://www.vishay.com/docs/20035/dcrcwe3.pdf; Resistance: 1.6k; ComponentLink1Description: Datasheet link; ComponentLink1URL: *; Supply 1 URL: https://www.digikey.com/en/products/detail/vishay-dale/CRCW08051K60JNEA/1175203; Supply 2 URL: https://www.mouser.vn/ProductDetail/Vishay-Dale/CRCW08051K60JNEA?qs=1CkV0QOCgMp9ti69jxGtDQ%3D%3D; Supply 3 SN: *; Supply 3 URL: https://www.thegioiic.com/dien-tro-1-6-kohm-0805-5
footprint RESISTOR_0805 (Chip Resistor, 2-Leads, Body 2,00x1,20mm, IPC Medium Density)
pins: 1, 2

## 0008051631
designator R?, comment 16k, 1/8W
RES, 16k Ohm, size 0805, 1%; Manufacture  Name: Vishay Dale; Manufacture  SN: CRCW080516K0FKEA; Resistance tolerance: +/-1%; Supply 1 Name: DigiKey; Supply 1 SN: 541-16.0KCTR-ND; Supply 2 Name: Mouser; Supply 2 SN: 71-CRCW080516K0FKEA; Size: 0805; Mounting Technology: SMT; Rated Power: 1/8 W; Datasheet: https://www.vishay.com/docs/20035/dcrcwe3.pdf; Resistance: 16k; ComponentLink1Description: Datasheet link; ComponentLink1URL: *; Supply 1 URL: https://www.digikey.com/en/products/detail/vishay-dale/CRCW080516K0FKEA/1175772; Supply 2 URL: https://www.mouser.vn/ProductDetail/Vishay-Dale/CRCW080516K0FKEA?qs=2mNt4BZ3oPz8gFxKsC%252Bkpg%3D%3D; Supply 3 Name: *; Supply 3 SN: *; Supply 3 URL: *
footprint RESISTOR_0805 (Chip Resistor, 2-Leads, Body 2,00x1,20mm, IPC Medium Density)
pins: 1, 2

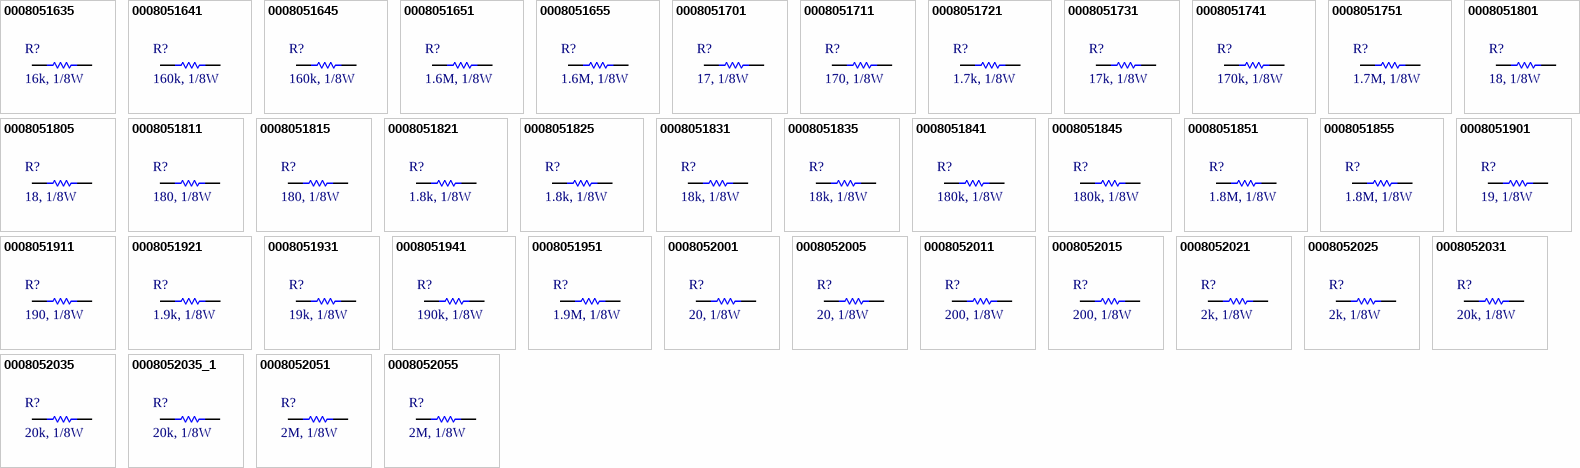
[diagram p8: symbols 0008051635 to 0008052055]

## 0008051635
designator R?, comment 16k, 1/8W
RES, 16k Ohm, size 0805, 5%; Manufacture  Name: Vishay Dale; Manufacture  SN: CRCW080516K0JNEA; Resistance tolerance: +/-5%; Supply 1 Name: DigiKey; Supply 1 SN: 541-16KATR-ND; Supply 2 Name: Mouser; Supply 2 SN: 71-CRCW080516K0JNEA; Supply 3 Name: ThegioiIC; Size: 0805; Mounting Technology: SMT; Rated Power: 1/8 W; Datasheet: https://www.vishay.com/docs/20035/dcrcwe3.pdf; Resistance: 16k; ComponentLink1Description: Datasheet link; ComponentLink1URL: *; Supply 1 URL: https://www.digikey.com/en/products/detail/vishay-dale/CRCW080516K0JNEA/1175227; Supply 2 URL: https://www.mouser.vn/ProductDetail/Vishay-Dale/CRCW080516K0JNEA?qs=2mNt4BZ3oPz0YxKgjgScdw%3D%3D; Supply 3 SN: *; Supply 3 URL: https://www.thegioiic.com/dien-tro-16-kohm-0805-5
footprint RESISTOR_0805 (Chip Resistor, 2-Leads, Body 2,00x1,20mm, IPC Medium Density)
pins: 1, 2

## 0008051641
designator R?, comment 160k, 1/8W
RES, 160k Ohm, size 0805, 1%; Manufacture  Name: Vishay Dale; Manufacture  SN: CRCW0805160KFKEA; Resistance tolerance: +/-1%; Supply 1 Name: DigiKey; Supply 1 SN: 541-160KCTR-ND; Supply 2 Name: Mouser; Supply 2 SN: 71-CRCW0805160KFKEA; Size: 0805; Mounting Technology: SMT; Rated Power: 1/8 W; Datasheet: https://www.vishay.com/docs/20035/dcrcwe3.pdf; Resistance: 160k; ComponentLink1Description: Datasheet link; ComponentLink1URL: *; Supply 1 URL: https://www.digikey.com/en/products/detail/vishay-dale/CRCW0805160KFKEA/1175886; Supply 2 URL: https://www.mouser.vn/ProductDetail/Vishay-Dale/CRCW0805160KFKEA?qs=K41p2XksEyGudUKnUltmEw%3D%3D; Supply 3 Name: *; Supply 3 SN: *; Supply 3 URL: *
footprint RESISTOR_0805 (Chip Resistor, 2-Leads, Body 2,00x1,20mm, IPC Medium Density)
pins: 1, 2

## 0008051645
designator R?, comment 160k, 1/8W
RES, 160k Ohm, size 0805, 5%; Manufacture  Name: Vishay Dale; Manufacture  SN: CRCW0805160RJNEA; Resistance tolerance: +/-5%; Supply 1 Name: DigiKey; Supply 1 SN: 541-160ATR-ND; Supply 2 Name: Mouser; Supply 2 SN: 71-CRCW0805160KJNEA; Supply 3 Name: ThegioiIC; Size: 0805; Mounting Technology: SMT; Rated Power: 1/8 W; Datasheet: https://www.vishay.com/docs/20035/dcrcwe3.pdf; Resistance: 160k; ComponentLink1Description: Datasheet link; ComponentLink1URL: *; Supply 1 URL: https://www.digikey.com/en/products/detail/vishay-dale/CRCW0805160RJNEA/1175179; Supply 2 URL: https://www.mouser.vn/ProductDetail/Vishay-Dale/CRCW0805160KJNEA?qs=bMjB6bAaLENzV8duqa5ZYg%3D%3D; Supply 3 SN: *; Supply 3 URL: https://www.thegioiic.com/dien-tro-160-kohm-0805-5
footprint RESISTOR_0805 (Chip Resistor, 2-Leads, Body 2,00x1,20mm, IPC Medium Density)
pins: 1, 2

## 0008051651
designator R?, comment 1.6M, 1/8W
RES, 1.6M Ohm, size 0805, 1%; Manufacture  Name: Vishay Dale; Manufacture  SN: CRCW08051M60FKEA; Resistance tolerance: +/-1%; Supply 1 Name: DigiKey; Supply 1 SN: 541-1.60MCTR-ND; Supply 2 Name: Mouser; Supply 2 SN: 71-CRCW08051M60FKEA; Size: 0805; Mounting Technology: SMT; Rated Power: 1/8 W; Datasheet: https://www.vishay.com/docs/20035/dcrcwe3.pdf; Resistance: 1.6M; ComponentLink1Description: Datasheet link; ComponentLink1URL: *; Supply 1 URL: https://www.digikey.com/en/products/detail/vishay-dale/CRCW08051M60FKEA/1176037; Supply 2 URL: https://www.mouser.vn/ProductDetail/Vishay-Dale/CRCW08051M60FKEA?qs=uQdQW2oKfUW%2F4zUqScrJaQ%3D%3D; Supply 3 Name: *; Supply 3 SN: *; Supply 3 URL: *
footprint RESISTOR_0805 (Chip Resistor, 2-Leads, Body 2,00x1,20mm, IPC Medium Density)
pins: 1, 2

## 0008051655
designator R?, comment 1.6M, 1/8W
RES, 1.6M Ohm, size 0805, 5%; Manufacture  Name: Vishay Dale; Manufacture  SN: CRCW08051M60JNEA; Resistance tolerance: +/-5%; Supply 1 Name: DigiKey; Supply 1 SN: 541-1.6MATR-ND; Supply 2 Name: Mouser; Supply 2 SN: 71-CRCW08051M60JNEA; Supply 3 Name: ThegioiIC; Size: 0805; Mounting Technology: SMT; Rated Power: 1/8 W; Datasheet: https://www.vishay.com/docs/20035/dcrcwe3.pdf; Resistance: 1.6M; ComponentLink1Description: Datasheet link; ComponentLink1URL: *; Supply 1 URL: https://www.digikey.com/en/products/detail/vishay-dale/CRCW08051M60JNEA/1175275; Supply 2 URL: https://www.mouser.vn/ProductDetail/Vishay-Dale/CRCW08051M60JNEA?qs=1CkV0QOCgMp8tYAVVZEuMg%3D%3D; Supply 3 SN: *; Supply 3 URL: https://www.thegioiic.com/dien-tro-1-6-mohm-0805-5
footprint RESISTOR_0805 (Chip Resistor, 2-Leads, Body 2,00x1,20mm, IPC Medium Density)
pins: 1, 2

## 0008051701
designator R?, comment 17, 1/8W
RES, 17 Ohm, size 0805, 1%; Manufacture  Name: Vishay Dale; Manufacture  SN: WSL0805R0100FEA; Resistance tolerance: +/-1%; Resistance: 17; Supply 1 Name: DigiKey; Supply 1 SN: WSLA-.01TR-ND; Supply 2 Name: Mouser; Supply 2 SN: 71-CRCW0805-17.4; Size: 0805; Mounting Technology: SMT; Rated Power: 1/8 W; Datasheet: https://www.vishay.com/docs/30100/wsl.pdf; ComponentLink1Description: Datasheet link; ComponentLink1URL: *; Supply 1 URL: https://www.digikey.com/en/products/detail/vishay-dale/WSL0805R0100FEA/712452; Supply 2 URL: https://www.mouser.vn/ProductDetail/Vishay-Dale/CRCW080517R4FKTA?qs=oNEoSKgIPbHcFwc%252BHnSBwQ%3D%3D; Supply 3 Name: *; Supply 3 SN: *; Supply 3 URL: *
footprint RESISTOR_0805 (Chip Resistor, 2-Leads, Body 2,00x1,20mm, IPC Medium Density)
pins: 1, 2

## 0008051711
designator R?, comment 170, 1/8W
RES, 170 Ohm, size 0805, 1%; Manufacture  Name: Vishay Dale; Manufacture  SN: CRCW0805174RFKEA; Resistance tolerance: +/-1%; Resistance: 170; Supply 1 Name: DigiKey; Supply 1 SN: 541-174CTR-ND; Supply 2 Name: Mouser; Supply 2 SN: 71-CRCW0805-174-E3; Size: 0805; Mounting Technology: SMT; Rated Power: 1/8 W; Datasheet: https://www.vishay.com/docs/20035/dcrcwe3.pdf; ComponentLink1Description: Datasheet link; ComponentLink1URL: *; Supply 1 URL: https://www.digikey.com/en/products/detail/vishay-dale/CRCW0805174RFKEA/1175548; Supply 2 URL: https://www.mouser.vn/ProductDetail/Vishay-Dale/CRCW0805174RFKEA?qs=2mNt4BZ3oPxH3Lr34Rz8ow%3D%3D; Supply 3 Name: *; Supply 3 SN: *; Supply 3 URL: *
footprint RESISTOR_0805 (Chip Resistor, 2-Leads, Body 2,00x1,20mm, IPC Medium Density)
pins: 1, 2

## 0008051721
designator R?, comment 1.7k, 1/8W
RES, 1.7k Ohm, size 0805, 1%; Manufacture  Name: Vishay Dale; Manufacture  SN: CRCW08051K74FKEA; Resistance tolerance: +/-1%; Supply 1 Name: DigiKey; Supply 1 SN: 541-1.74KCTR-ND; Supply 2 Name: Mouser; Supply 2 SN: 71-CRCW08051R74FKEA; Size: 0805; Mounting Technology: SMT; Rated Power: 1/8 W; Datasheet: https://www.vishay.com/docs/20035/dcrcwe3.pdf; Resistance: 1.7k; ComponentLink1Description: Datasheet link; ComponentLink1URL: *; Supply 1 URL: https://www.digikey.com/en/products/detail/vishay-dale/CRCW08051K74FKEA/1175662; Supply 2 URL: https://www.mouser.vn/ProductDetail/Vishay-Dale/CRCW08051R74FKEA?qs=VZN8LE6el69bxHRyB8AcJA%3D%3D; Supply 3 Name: *; Supply 3 SN: *; Supply 3 URL: *
footprint RESISTOR_0805 (Chip Resistor, 2-Leads, Body 2,00x1,20mm, IPC Medium Density)
pins: 1, 2

## 0008051731
designator R?, comment 17k, 1/8W
RES, 17k Ohm, size 0805, 1%; Manufacture  Name: Vishay Dale; Manufacture  SN: CRCW080516K9FKEA; Resistance tolerance: +/-1%; Supply 1 Name: DigiKey; Supply 1 SN: 541-16.9KCTR-ND; Supply 2 Name: Mouser; Supply 2 SN: 71-CRCW080516R9FKEA; Supply 3 Name: ThegioiIC; Size: 0805; Mounting Technology: SMT; Rated Power: 1/8 W; Datasheet: https://www.vishay.com/docs/20035/dcrcwe3.pdf; Resistance: 17k; ComponentLink1Description: Datasheet link; ComponentLink1URL: *; Supply 1 URL: https://www.digikey.com/en/products/detail/vishay-dale/CRCW080516K9FKEA/1175775; Supply 2 URL: https://www.mouser.vn/ProductDetail/Vishay-Dale/CRCW080516R9FKEA?qs=2mNt4BZ3oPy6ledn75dEfw%3D%3D; Supply 3 SN: *; Supply 3 URL: https://www.thegioiic.com/dien-tro-16-9-kohm-0805-1
footprint RESISTOR_0805 (Chip Resistor, 2-Leads, Body 2,00x1,20mm, IPC Medium Density)
pins: 1, 2

## 0008051741
designator R?, comment 170k, 1/8W
RES, 170k Ohm, size 0805, 1%; Manufacture  Name: Vishay Dale; Manufacture  SN: CRCW0805169KFKEA; Resistance tolerance: +/-1%; Supply 1 Name: DigiKey; Supply 1 SN: 541-169KCTR-ND; Supply 2 Name: Mouser; Supply 2 SN: 71-CRCW0805169KFKEA; Supply 3 Name: ThegioiIC; Size: 0805; Mounting Technology: SMT; Rated Power: 1/8 W; Datasheet: https://www.vishay.com/docs/20035/dcrcwe3.pdf; Resistance: 170k; ComponentLink1Description: Datasheet link; ComponentLink1URL: *; Supply 1 URL: https://www.digikey.com/en/products/detail/vishay-dale/CRCW0805169KFKEA/1175889; Supply 2 URL: https://www.mouser.vn/ProductDetail/Vishay-Dale/CRCW0805169KFKEA?qs=2mNt4BZ3oPxAzoQkYaNjxQ%3D%3D; Supply 3 SN: *; Supply 3 URL: https://www.vishay.com/docs/20035/dcrcwe3.pdf
footprint RESISTOR_0805 (Chip Resistor, 2-Leads, Body 2,00x1,20mm, IPC Medium Density)
pins: 1, 2

## 0008051751
designator R?, comment 1.7M, 1/8W
RES, 1.7M Ohm, size 0805, 1%; Manufacture  Name: Vishay Dale; Manufacture  SN: CRCW08051M69FKEA; Resistance tolerance: +/-1%; Supply 1 Name: DigiKey; Supply 1 SN: 541-1.69MCTR-ND; Supply 2 Name: Mouser; Supply 2 SN: 71-CRCW08051M69FKEA; Size: 0805; Mounting Technology: SMT; Rated Power: 1/8 W; Datasheet: https://www.vishay.com/docs/20035/dcrcwe3.pdf; Resistance: 1.7M; ComponentLink1Description: Datasheet link; ComponentLink1URL: *; Supply 1 URL: https://www.digikey.com/en/products/detail/vishay-dale/CRCW08051M69FKEA/1176040; Supply 2 URL: https://www.mouser.vn/ProductDetail/Vishay-Dale/CRCW08051M69FKEA?qs=uQdQW2oKfUWB0BOy%2FF%2FQ%252Bw%3D%3D; Supply 3 Name: *; Supply 3 SN: *; Supply 3 URL: *
footprint RESISTOR_0805 (Chip Resistor, 2-Leads, Body 2,00x1,20mm, IPC Medium Density)
pins: 1, 2

## 0008051801
designator R?, comment 18, 1/8W
RES, 18 Ohm, size 0805, 1%; Manufacture  Name: Vishay Dale; Manufacture  SN: CRCW080518R0FKEAC; Resistance tolerance: +/-1%; Resistance: 18; Supply 1 Name: DigiKey; Supply 1 SN: 541-CRCW080518R0FKEACTR-ND; Supply 2 Name: Mouser; Supply 2 SN: 71-CRCW080518R0FKEA; Size: 0805; Mounting Technology: SMT; Rated Power: 1/8 W; Datasheet: https://www.vishay.com/docs/28773/crcwce3.pdf; ComponentLink1Description: Datasheet link; ComponentLink1URL: *; Supply 1 URL: https://www.digikey.com/en/products/detail/vishay-dale/CRCW080518R0FKEAC/7922560; Supply 2 URL: https://www.mouser.vn/ProductDetail/Vishay-Dale/CRCW080518R0FKEA?qs=DZvKvnD5UYXeNlxVPLgBIg%3D%3D; Supply 3 Name: *; Supply 3 SN: *; Supply 3 URL: *
footprint RESISTOR_0805 (Chip Resistor, 2-Leads, Body 2,00x1,20mm, IPC Medium Density)
pins: 1, 2

## 0008051805
designator R?, comment 18, 1/8W
RES, 18 Ohm, size 0805, 5%; Manufacture  Name: Vishay Dale; Manufacture  SN: CRCW080518R0JNEA; Resistance tolerance: +/-5%; Resistance: 18; Supply 1 Name: DigiKey; Supply 1 SN: 541-18ATR-ND; Supply 2 Name: Mouser; Supply 2 SN: 71-CRCW080518R0JNEA; Supply 3 Name: ThegioiIC; Size: 0805; Mounting Technology: SMT; Rated Power: 1/8 W; Datasheet: https://www.vishay.com/docs/20035/dcrcwe3.pdf; ComponentLink1Description: Datasheet link; ComponentLink1URL: *; Supply 1 URL: https://www.digikey.com/en/products/detail/vishay-dale/CRCW080518R0JNEA/1175156; Supply 2 URL: https://www.mouser.vn/ProductDetail/Vishay-Dale/CRCW080518R0JNEA?qs=DZvKvnD5UYVzWW6FXLIdlg%3D%3D; Supply 3 SN: *; Supply 3 URL: https://www.thegioiic.com/dien-tro-18-ohm-0805-5-
footprint RESISTOR_0805 (Chip Resistor, 2-Leads, Body 2,00x1,20mm, IPC Medium Density)
pins: 1, 2

## 0008051811
designator R?, comment 180, 1/8W
RES, 180 Ohm, size 0805, 1%; Manufacture  Name: Vishay Dale; Manufacture  SN: CRCW0805180RFKEA; Resistance tolerance: +/-1%; Resistance: 180; Supply 1 Name: DigiKey; Supply 1 SN: 541-180CTR-ND; Supply 2 Name: Mouser; Supply 2 SN: 71-CRCW0805180RFKEA; Supply 3 Name: ThegioiIC; Size: 0805; Mounting Technology: SMT; Rated Power: 1/8 W; Datasheet: https://www.vishay.com/docs/20035/dcrcwe3.pdf; ComponentLink1Description: Datasheet link; ComponentLink1URL: *; Supply 1 URL: https://www.digikey.com/en/products/detail/vishay-dale/CRCW0805180RFKEA/1175550; Supply 2 URL: https://www.mouser.vn/ProductDetail/Vishay-Dale/CRCW0805180RFKEA?qs=2mNt4BZ3oPx3JSoDddPwBg%3D%3D; Supply 3 SN: *; Supply 3 URL: https://www.thegioiic.com/dien-tro-180-ohm-0805-1
footprint RESISTOR_0805 (Chip Resistor, 2-Leads, Body 2,00x1,20mm, IPC Medium Density)
pins: 1, 2

## 0008051815
designator R?, comment 180, 1/8W
RES, 180 Ohm, size 0805, 5%; Manufacture  Name: Vishay Dale; Manufacture  SN: CRCW0805180RJNEA; Resistance tolerance: +/-5%; Resistance: 180; Supply 1 Name: DigiKey; Supply 1 SN: 541-180ATR-ND; Supply 2 Name: Mouser; Supply 2 SN: 71-CRCW0805180RJNEA; Supply 3 Name: ThegioiIC; Size: 0805; Mounting Technology: SMT; Rated Power: 1/8 W; Datasheet: https://www.vishay.com/docs/20035/dcrcwe3.pdf; ComponentLink1Description: Datasheet link; ComponentLink1URL: *; Supply 1 URL: https://www.digikey.com/en/products/detail/vishay-dale/CRCW0805180RJNEA/1175180; Supply 2 URL: https://www.mouser.vn/ProductDetail/Vishay-Dale/CRCW0805180RJNEA?qs=2mNt4BZ3oPw5LDq56YqQBw%3D%3D; Supply 3 SN: *; Supply 3 URL: https://www.thegioiic.com/dien-tro-180-ohm-0805-5
footprint RESISTOR_0805 (Chip Resistor, 2-Leads, Body 2,00x1,20mm, IPC Medium Density)
pins: 1, 2

## 0008051821
designator R?, comment 1.8k, 1/8W
RES, 1.8k Ohm, size 0805, 1%; Manufacture  Name: Vishay Dale; Manufacture  SN: CRCW08051K80FKEAC; Resistance tolerance: +/-1%; Supply 1 Name: DigiKey; Supply 1 SN: 541-CRCW08051K80FKEACTR-ND; Supply 2 Name: Mouser; Supply 2 SN: 71-CRCW0805-1.8K; Size: 0805; Mounting Technology: SMT; Rated Power: 1/8 W; Datasheet: https://www.vishay.com/docs/28773/crcwce3.pdf; Resistance: 1.8k; ComponentLink1Description: Datasheet link; ComponentLink1URL: *; Supply 1 URL: https://www.digikey.com/en/products/detail/vishay-dale/CRCW08051K80FKEAC/7922423; Supply 2 URL: https://www.mouser.vn/ProductDetail/Vishay-Dale/CRCW08051K80FKTA?qs=%2FCr5RXwmPBPYh0ghdoWn4A%3D%3D; Supply 3 Name: *; Supply 3 SN: *; Supply 3 URL: *
footprint RESISTOR_0805 (Chip Resistor, 2-Leads, Body 2,00x1,20mm, IPC Medium Density)
pins: 1, 2

## 0008051825
designator R?, comment 1.8k, 1/8W
RES, 1.8k Ohm, size 0805, 5%; Manufacture  Name: Vishay Dale; Manufacture  SN: CRCW08051K80JNEA; Resistance tolerance: +/-5%; Supply 1 Name: DigiKey; Supply 1 SN: 541-1.8KATR-ND; Supply 2 Name: Mouser; Supply 2 SN: 71-CRCW08051K80JNEA; Supply 3 Name: ThegioiIC; Size: 0805; Mounting Technology: SMT; Rated Power: 1/8 W; Datasheet: https://www.vishay.com/docs/20035/dcrcwe3.pdf; Resistance: 1.8k; ComponentLink1Description: Datasheet link; ComponentLink1URL: *; Supply 1 URL: https://www.digikey.com/en/products/detail/vishay-dale/CRCW08051K80JNEA/1175204; Supply 2 URL: https://www.mouser.vn/ProductDetail/Vishay-Dale/CRCW08051K80JNEA?qs=1CkV0QOCgMoziGcs0GIg9A%3D%3D; Supply 3 SN: *; Supply 3 URL: https://www.thegioiic.com/dien-tro-1-8-kohm-0805-5
footprint RESISTOR_0805 (Chip Resistor, 2-Leads, Body 2,00x1,20mm, IPC Medium Density)
pins: 1, 2

## 0008051831
designator R?, comment 18k, 1/8W
RES, 18k Ohm, size 0805, 1%; Manufacture  Name: Vishay Dale; Manufacture  SN: CRCW080518K0FKEAC; Resistance tolerance: +/-1%; Supply 1 Name: DigiKey; Supply 1 SN: 541-CRCW080518K0FKEACTR-ND; Supply 2 Name: Mouser; Supply 2 SN: 71-CRCW0805-18K; Size: 0805; Mounting Technology: SMT; Rated Power: 1/8 W; Datasheet: https://www.vishay.com/docs/28773/crcwce3.pdf; Resistance: 18k; ComponentLink1Description: Datasheet link; ComponentLink1URL: *; Supply 1 URL: https://www.digikey.com/en/products/detail/vishay-dale/CRCW080518K0FKEAC/7922446; Supply 2 URL: https://www.mouser.vn/ProductDetail/Vishay-Dale/CRCW080518K0FKTA?qs=y%252BxuShyeZ0NrSEy0dNjJIA%3D%3D; Supply 3 Name: *; Supply 3 SN: *; Supply 3 URL: *
footprint RESISTOR_0805 (Chip Resistor, 2-Leads, Body 2,00x1,20mm, IPC Medium Density)
pins: 1, 2

## 0008051835
designator R?, comment 18k, 1/8W
RES, 18k Ohm, size 0805, 5%; Manufacture  Name: Vishay Dale; Manufacture  SN: CRCW080518K0JNEA; Resistance tolerance: +/-5%; Supply 1 Name: DigiKey; Supply 1 SN: 541-18KATR-ND; Supply 2 Name: Mouser; Supply 2 SN: 71-CRCW080518K0JNEA; Supply 3 Name: ThegioiIC; Size: 0805; Mounting Technology: SMT; Rated Power: 1/8 W; Datasheet: https://www.vishay.com/docs/20035/dcrcwe3.pdf; Resistance: 18k; ComponentLink1Description: Datasheet link; ComponentLink1URL: *; Supply 1 URL: https://www.digikey.com/en/products/detail/vishay-dale/CRCW080518K0JNEA/1175228; Supply 2 URL: https://www.mouser.vn/ProductDetail/Vishay-Dale/CRCW080518K0JNEA?qs=DZvKvnD5UYWL7mO9xPXKNA%3D%3D; Supply 3 SN: *; Supply 3 URL: https://www.thegioiic.com/dien-tro-18-kohm-0805-5
footprint RESISTOR_0805 (Chip Resistor, 2-Leads, Body 2,00x1,20mm, IPC Medium Density)
pins: 1, 2

## 0008051841
designator R?, comment 180k, 1/8W
RES, 180k Ohm, size 0805, 1%; Manufacture  Name: Vishay Dale; Manufacture  SN: CRCW0805180KFKEAC; Resistance tolerance: +/-1%; Supply 1 Name: DigiKey; Supply 1 SN: 541-CRCW0805180KFKEACTR-ND; Supply 2 Name: Mouser; Supply 2 SN: 71-CRCW0805180KFKEA; Supply 3 Name: ThegioiIC; Size: 0805; Mounting Technology: SMT; Rated Power: 1/8 W; Datasheet: https://www.vishay.com/docs/28773/crcwce3.pdf; Resistance: 180k; ComponentLink1Description: Datasheet link; ComponentLink1URL: *; Supply 1 URL: https://www.digikey.com/en/products/detail/vishay-dale/CRCW0805180KFKEAC/7922559; Supply 2 URL: https://www.mouser.vn/ProductDetail/Vishay-Dale/CRCW0805180KFKEA?qs=2mNt4BZ3oPxkEXJ7pFEQ5A%3D%3D; Supply 3 SN: *; Supply 3 URL: https://www.vishay.com/docs/28773/crcwce3.pdf
footprint RESISTOR_0805 (Chip Resistor, 2-Leads, Body 2,00x1,20mm, IPC Medium Density)
pins: 1, 2